# Altium schematic symbol library УГО мск.SchLib: 25 symbols
Pins are listed as number, name and electrical type; pins without a type are passive.

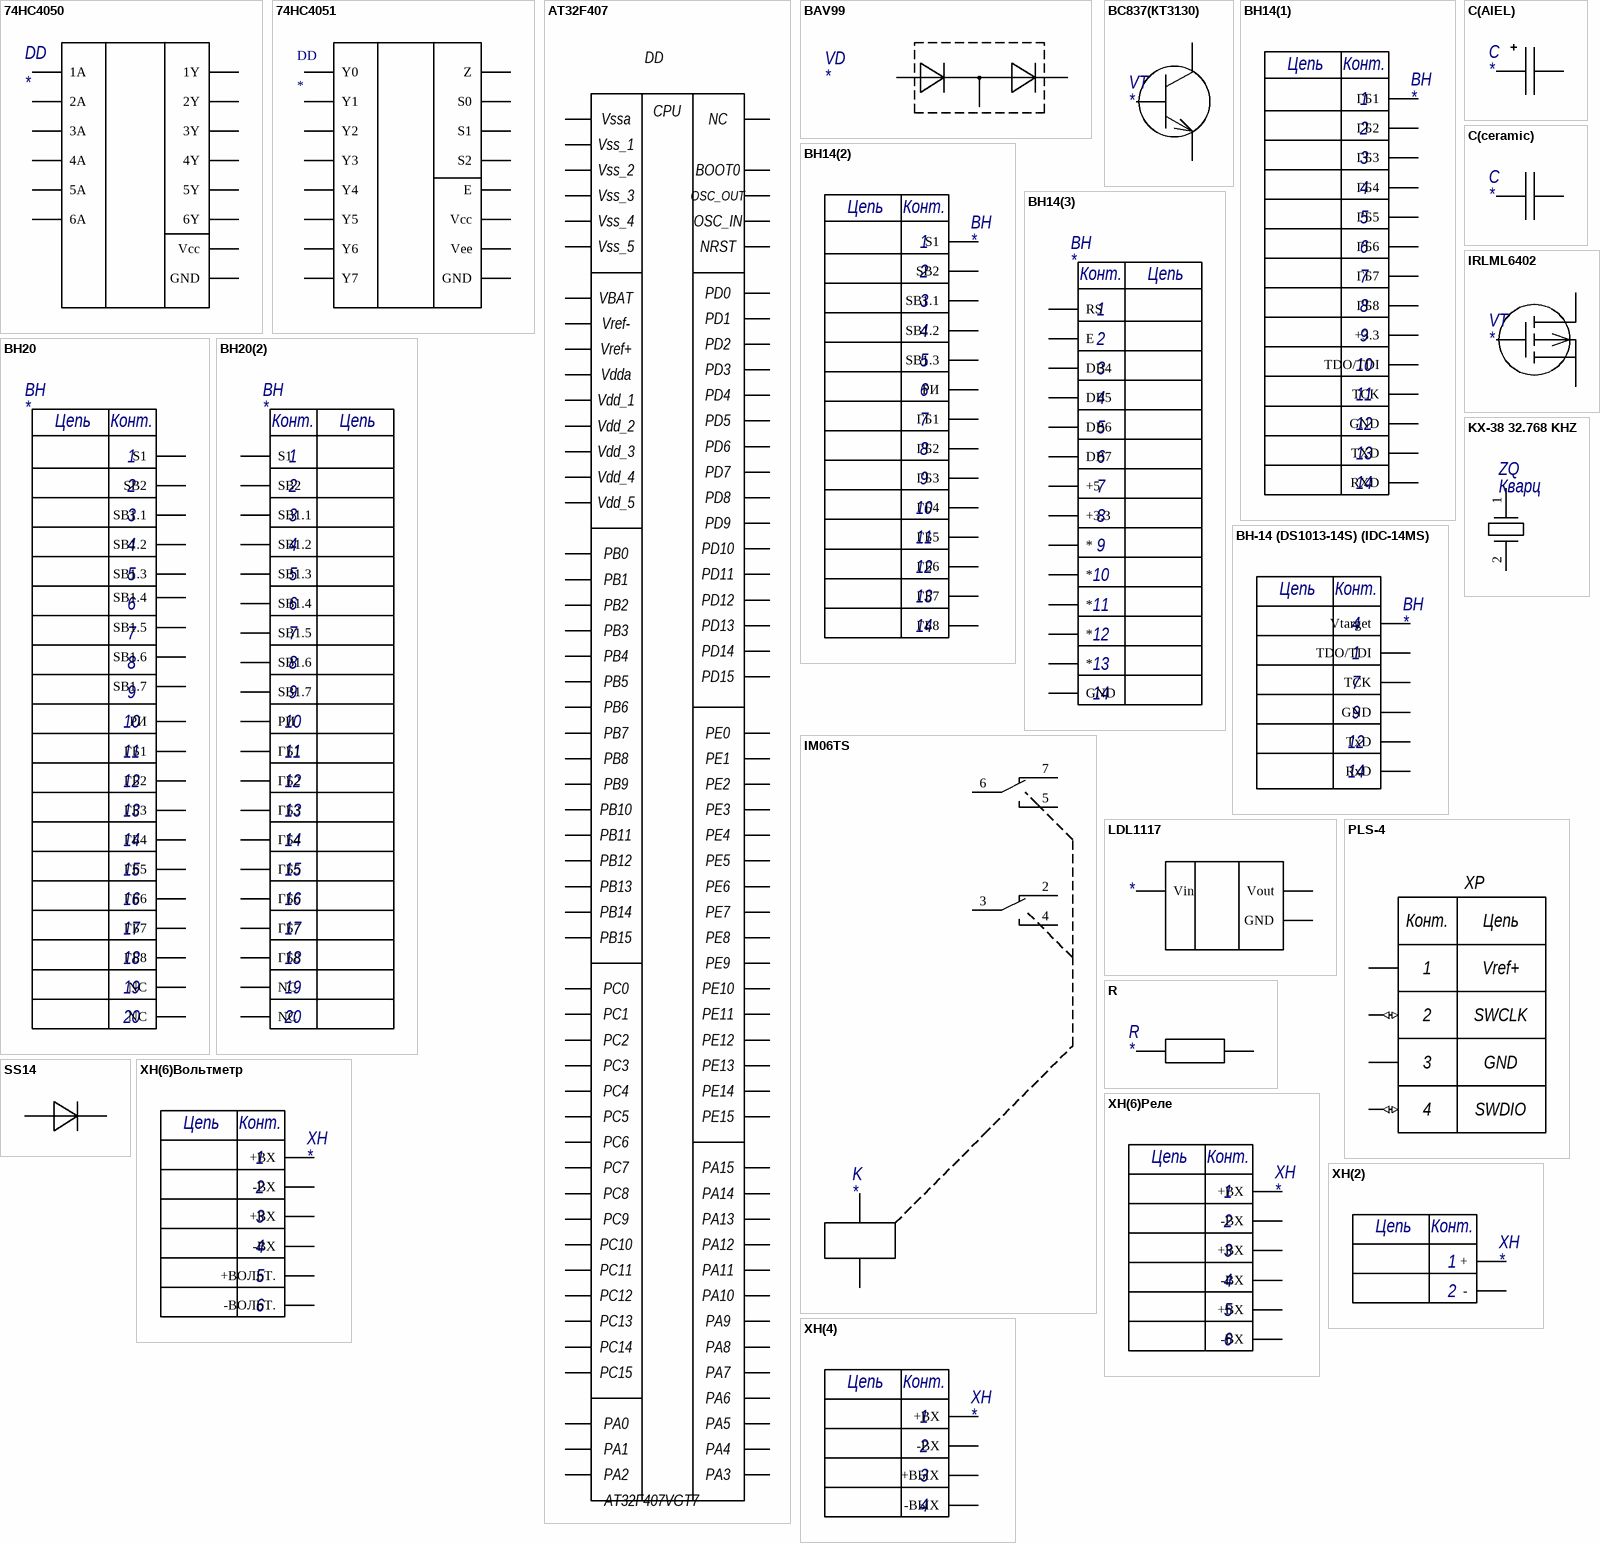
[diagram p0: symbols 74HC4050 to ХН(4)]

## 74HC4050
designator DD
Преобр-ль
footprint 74HC4050(51)
pins: 1 Vcc, 2 1Y, 3 1A, 4 2Y, 5 2A, 6 3Y, 7 3A, 8 GND, 9 4A, 10 4Y, 11 5A, 12 5Y, 14 6A, 15 6Y

## 74HC4051
designator DD
Преобр-ль
footprint 74HC4050(51)
pins: 1 Y4, 2 Y6, 3 Z, 4 Y7, 5 Y5, 6 E, 7 Vee, 8 GND, 9 S2, 10 S1, 11 S0, 12 Y3, 13 Y0, 14 Y1, 15 Y2, 16 Vcc

## AT32F407
designator DD, comment AT32F407VGT7
МК
footprint Микроконтроллер AT32F407VGT7_LQFP-100 (TQFP-100)
pins: 1 PE2 "SPI4_SCK(7) / I2S4_CK(7) / XMC_A23 / TRACECK", 2 PE3 "XMC_A19 / TRACED0", 3 PE4 "SPI4_NSS(7) / I2S4_WS(7) / XMC_A20 / TRACED1", 4 PE5 "SPI4_MISO(7) / XMC_A21 / TRACED2", 5 PE6 "SPI4_MOSI(7) / I2S4_SD(7) / XMC_A22 / TRACED3", 6 VBAT "Информационный вход Х6", 7 PC13 "TAMPER-RTC", 8 PC14 "OSC32_IN", 9 PC15 "OSC32_OUT", 10 Vss_5 "Информационный вход Х6", 11 Vdd_5 "Информационный вход Х6", 12 OSC_IN, 13 OSC_OUT, 14 NRST, 15 PC0 "ADC123_IN10 / SDIO2_D0(7)", 16 PC1 "ADC123_IN11 / SDIO2_D1", 17 PC2 "ADC123_IN12 / SDIO2_D2(7)", 18 PC3 "ADC123_IN13 / SDIO2_D3(7)", 19 Vssa "Информационный вход Х6", 20 Vref- "Информационный вход Х6", 21 Vref+ "Информационный вход Х6", 22 Vdda "Информационный вход Х6", 23 PA0 "ADC123_IN0", 24 PA1 "ADC123_IN1", 25 PA2 "ADC123_IN2", 26 PA3 "ADC123_IN3", 27 Vss_4 "Информационный вход Х6", 28 Vdd_4 "Информационный вход Х6", 29 PA4 "DAC_OUT1 / ADC12_IN4 /", 30 PA5 "DAC_OUT2 / ADC12_IN5", 31 PA6 "ADC12_IN6 / SPI1_MISO(7)", 32 PA7 "ADC12_IN7", 33 PC4 "ADC12_IN14", 34 PC4 "ADC12_IN15", 35 PB0 "ADC12_IN8", 36 PB1 "ADC12_IN9", 37 PB2 "PB2 / BOOT1", 38 PE7 "UART7_RX(7) / XMC_D4(7)", 39 PE8 "UART7_TX(7) / XMC_D5(7)", 40 PE9 "XMC_D6(7)", 41 PE10 "XMC_D7(7)", 42 PE11 "XMC_D8", 43 PE12 "XMC_D9", 44 PE13 "XMC_D10", 45 PE14 "XMC_D11", 46 PE15 "XMC_D12", 47 PB10 "USART3_TX(7) / I2C2_SCL(9", 48 PB11 "USART3_RX(7) / I2C2_SDA(9) /", 49 Vss_1 "Информационный вход Х6", 50 Vdd_1 "Информационный вход Х6", 51 PB12 "USART3_CK(7) / CAN2_RX(7)", 52 PB13 "USART3_CTS(7) / CAN2_TX(7) /", 53 PB14 "USART3_RTS(7)", 54 PB15 "SPI2_MOSI(9) / I2S2_SD(9)", 55 PD8 "XMC_D13(7", 56 PD9 "XMC_D14", 57 PD10 "XMC_D15", 58 PD11 "XMC_A16", 59 PD12 "XMC_A17", 60 PD13 "XMC_A18", 61 PD14 "XMC_D0(7)", 62 PD15 "XMC_D1", 63 PC6 "USART6_TX(7) / I2S2_MCK(7)", 64 PC7 "USART6_RX(7) / I2S3_MCK(7)", 65 PC8 "USART6_CK / I2S4_MCK(7)", 66 PC9 "I2C3_SDA(7) / SDIO1_D1", 67 PA8 "CLKOUT / USART1_CK", 68 PA9 "USART1_TX(7) / I2C3_SMBA", 69 PA10 "USART1_RX(7) / TMR1_CH3(7)", 70 PA11 "USB_DM / USART1_CTS /", 71 PA12 "USB_DP / USART1_RTS /", 72 PA13 "Информационный вход Х6", 73 NC "Not connected", 74 Vss_2 "Информационный вход Х6", 75 Vdd_2 "Информационный вход Х6", 76 PA14 "JTCK-SWCLK", 77 PA15 "SPI3_NSS(7) / I2S3_WS(7)", 78 PC10 "UART4_TX(7) / SDIO1_D2", 79 PC11 "UART4_RX(7) / SDIO1_D3", 80 PC12 "UART5_TX(7) / SDIO1_CK", 81 PD0 "XMC_D2(7", 82 PD1 "XMC_D3(7)", 83 PD2 "UART5_RX(7) / SDIO1_CMD /", 84 PD3 "XMC_CLK", 85 PD4 "XMC_NOE(7)", 86 PD5 "XMC_NOE(7)", 87 PD6 "XMC_NWAIT", 88 PD7 "XMC_NE1 / XMC_NCE2", 89 PB3 "SPI3_SCK(7) / I2S3_CK(7)", 90 PB4 "SPI3_MISO(7) / I2S3ext_SD(7)", 91 PB5 "SPI3_MOSI(7) / I2S3_SD(7) /", 92 PB6 "I2C1_SCL(7) / SPIM_IO3 /", 93 PB7 "I2C1_SDA(7) / XMC_NADV /", 94 BOOT0, 95 PB8 "SDIO1_D4 / ETH_MII_TXD3", 96 PB9 "SDIO1_D5 / TMR4_CH4(7) /", 97 PE0 "UART8_RX(7) / XMC_NBL0 / TMR4_ETR", 98 PE1 "UART8_TX(7) / XMC_NBL1", 99 Vss_3 "Информационный вход Х6", 100 Vdd_3 "Информационный вход Х6"
text: CPU; PC5

## BAV99
designator VD
Пара диодов
footprint BAV99 (SOT23, 3-Leads, Body 2,90x2,45mm, Pitch 1,05mm, IPC Medium Density)
pins: 1, 2, 3

## BC837(КТ3130)
designator VT
Транзистор
footprint BC847(IRLML6402) (SOT23, 3-Leads, Body 2,80x2,30mm, Pitch 0,95mm, IPC Medium Density)
pins: 1, 2, 3

## BH14(1)
designator BH
footprint BH-14 (DS1013-14S) (IDC-14MS)
pins: 1 ГБ1, 2 ГБ2, 3 ГБ3, 4 ГБ4, 5 ГБ5, 6 ГБ6, 7 ГБ7, 8 ГБ8, 9 +3.3, 10 TDO/TDI, 11 TCK, 12 GND, 13 TXD, 14 RXD
text: Цепь; Конт.

## BH14(2)
designator BH
footprint BH-14 (DS1013-14S) (IDC-14MS)
pins: 1 S1, 2 SB2, 3 SB1.1, 4 SB1.2, 5 SB1.3, 6 РИ, 7 ГБ1, 8 ГБ2, 9 ГБ3, 10 ГБ4, 11 ГБ5, 12 ГБ6, 13 ГБ7, 14 ГБ8
text: Цепь; Конт.

## BH14(3)
designator BH
footprint BH-14 (DS1013-14S) (IDC-14MS)
pins: 1 RS, 2 E, 3 DB4, 4 DB5, 5 DB6, 6 DB7, 7 +5, 8 +3.3, 9 *, 10 *, 11 *, 12 *, 13 *, 14 GND
text: Конт.; Цепь

## BH20
designator BH
footprint IDC20
pins: 1 S1, 2 SB2, 3 SB1.1, 4 SB1.2, 5 SB1.3, 6 SB1.4, 7 SB1.5, 8 SB1.6, 9 SB1.7, 10 РИ, 11 ГБ1, 12 ГБ2, 13 ГБ3, 14 ГБ4, 15 ГБ5, 16 ГБ6, 17 ГБ7, 18 ГБ8, 19 NC, 20 NC
text: Цепь; Конт.

## BH20(2)
designator BH
footprint IDC20
pins: 1 S1, 2 SB2, 3 SB1.1, 4 SB1.2, 5 SB1.3, 6 SB1.4, 7 SB1.5, 8 SB1.6, 9 SB1.7, 10 РИ, 11 ГБ1, 12 ГБ2, 13 ГБ3, 14 ГБ4, 15 ГБ5, 16 ГБ6, 17 ГБ7, 18 ГБ8, 19 NC, 20 NC
text: Конт.; Цепь

## BH-14 (DS1013-14S) (IDC-14MS)
designator BH
footprint BH-14 (DS1013-14S) (IDC-14MS)
pins: 1 TDO/TDI, 4 Vtarget, 7 TCK, 9 GND, 12 TxD, 14 RxD
text: Цепь; Конт.

## C(AlEL)
designator C
Электролит
footprint C(AlEL)
pins: 1, 2

## C(ceramic)
designator C
SMD
footprint C(ceramic) (Chip Capacitor, 2-Leads, Body 2,00x1,25mm, IPC Medium Density)
pins: 1, 2

## IM06TS
designator K
Реле
footprint IM06TS
pins: 1, 2, 3, 4, 5, 6, 7, 8

## IRLML6402
designator VT
Транзистор
footprint BC847(IRLML6402) (SOT23, 3-Leads, Body 2,80x2,30mm, Pitch 0,95mm, IPC Medium Density)
pins: 1, 2, 3

## KX-38 32.768 KHZ
designator ZQ, comment Кварц
footprint KX-38 32.768 KHZ
pins: 1, 2

## LDL1117
designator DD
Стабилизатор
footprint LDL1117
pins: 1 GND, 2 Vout, 3 Vin

## PLS-4
designator XP, comment Обозначение при заказе  (value not drawn)
Штырьки
footprint PLS-4
pins: 1 Uпит (power) "Информационный вход Х6", 2 SWCLK (io) "Информационный вход Х6", 3 GND "Информационный вход Х6", 4 SWDIO (io) "Информационный вход Х6"
text: Конт.; Цепь; Vref+

## R
designator R
SMD
footprint R (Chip Resistor, 2-Leads, Body 2,10x1,30mm, IPC Medium Density)
pins: 1, 2

## SS14
designator VD  (value not drawn)
Диод
footprint SS14
pins: 1, 2

## ХH(6)Вольтметр
designator XH
footprint XH(6)
pins: 1 +ВХ, 2 -ВХ, 3 +ВХ, 4 -ВХ, 5 +ВОЛЬТ., 6 -ВОЛЬТ.
text: Цепь; Конт.

## ХH(6)Реле
designator XH
footprint XH(6)
pins: 1 +ВХ, 2 -ВХ, 3 +ВХ, 4 -ВХ, 5 +ВХ, 6 -ВХ
text: Цепь; Конт.

## ХН(2)
designator XH
footprint ХН(2)
pins: 1 +, 2 -
text: Цепь; Конт.

## ХН(4)
designator XH
footprint ХН(4)
pins: 1 +ВХ, 2 -ВХ, 3 +ВЫХ, 4 -ВЫХ
text: Цепь; Конт.

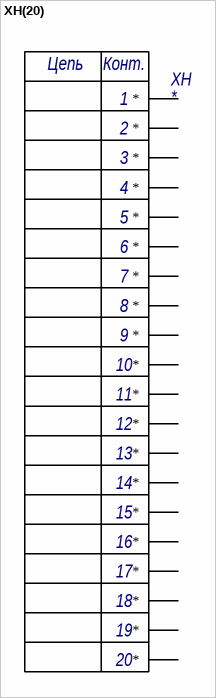
[diagram p1: symbol ХН(20)]

## ХН(20)
designator XH
footprint ХН(20)
pins: 1 *, 2 *, 3 *, 4 *, 5 *, 6 *, 7 *, 8 *, 9 *, 10 *, 11 *, 12 *, 13 *, 14 *, 15 *, 16 *, 17 *, 18 *, 19 *, 20 *
text: Цепь; Конт.